# Altium schematic symbol library Bridge-Rectifiers.SchLib: 1 symbol
Pins are listed as number, name and electrical type; pins without a type are passive.

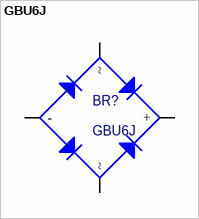
[diagram p0: symbol GBU6J]

## GBU6J
designator BR?
BRIDGE RECT 1PHASE 600V 6A GBU; Manufacturer: onsemi; Manufacturer Lifecycle Status: ACTIVE; Value: 400pF; Element Configuration: Single; Forward Voltage: 1V; Max Forward Surge Current (Ifsm): 175A; Max Junction Temperature (Tj): 150°C; Max Power Dissipation: 12W; Max Reverse Leakage Current: 5µA; Number of Elements: 4; Supplier: DigiKey; Supplier Part Number: GBU6JFS-ND; Manufacturer Part Number: GBU6J; RoHS: Compliant; Category: Bridge Rectifier Diodes; Stock: 3548; Pricing: 1=2.02, 20=1.136, 100=0.8699, 500=0.6911, 1000=0.63359, 2000=0.58524, 5000=0.53293, 10000=0.53113 (USD); Average Rectified Current: 6A; Case/Package: SIP; China RoHS: Non-Compliant; Contact Plating: Tin; Current Rating: 6A; Export Control Classification Number (ECCN) Code: EAR99; Forward Current: 6A; Height: 20.83mm; Harmonized Tariff Schedule (HTS) Code: 8541.10.00.80; Introduction Date: 1999-01-01; Lead Free: Lead Free; Length: 22.3mm; Lifecycle Status: Production; Max Operating Temperature: 150°C; Max Output current: 6A; Max Repetitive Reverse Voltage (Vrrm): 600V; Max Surge Current: 175A; Min Breakdown Voltage: 600V; Min Operating Temperature: -55°C; Mounting Technology: Through Hole; Pins: 4; Number of Terminals: 4; Output Current: 6A; Peak Non-Repetitive Surge Current: 175A; Peak Reverse Current: 5µA; Power Dissipation: 12W; Radiation Hardening: No; REACH SVHC: No; Reverse Standoff Voltage: 600V; Reverse Voltage: 600V; Schedule B: 8541100080, 8541100080|8541100080|8541100080|8541100080|8541100080; Voltage Rating (DC): 600V; Weight: 5.4g; Width: 3.56mm; ComponentLink1URL: https://datasheet.octopart.com:443/GBU6J-onsemi-datasheet-166784474.pdf?src-supplier=Upverter; ComponentLink1Description: https://datasheet.octopart.com:443/GBU6J-onsemi-datasheet-166784474.pdf?src-supplier=Upverter; ComponentLink2URL: https://sigma.octopart.com:443/159494665/technical_drawing/onsemi-GBU6J.pdf?src-supplier=Upverter; ComponentLink2Description: https://sigma.octopart.com:443/159494665/technical_drawing/onsemi-GBU6J.pdf?src-supplier=Upverter; ComponentLink3URL: https://datasheet.octopart.com:443/GBU6J-ON-Semiconductor-datasheet-21133206.pdf?src-supplier=IHS; ComponentLink3Description: https://datasheet.octopart.com:443/GBU6J-ON-Semiconductor-datasheet-21133206.pdf?src-supplier=IHS; ComponentLink4URL: https://datasheet.octopart.com:443/GBU6J-onsemi-datasheet-180960912.pdf?src-supplier=IHS; ComponentLink4Description: https://datasheet.octopart.com:443/GBU6J-onsemi-datasheet-180960912.pdf?src-supplier=IHS; ComponentLink5URL: https://datasheet.octopart.com:443/GBU6J-ON-Semiconductor-datasheet-133511150.pdf?src-supplier=Master+Electronics; ComponentLink5Description: https://datasheet.octopart.com:443/GBU6J-ON-Semiconductor-datasheet-133511150.pdf?src-supplier=Master+Electronics; ComponentLink6URL: https://datasheet.octopart.com:443/GBU6J-ON-Semiconductor-datasheet-81100643.pdf?src-supplier=onsemi; ComponentLink6Description: https://datasheet.octopart.com:443/GBU6J-ON-Semiconductor-datasheet-81100643.pdf?src-supplier=onsemi; ComponentLink7URL: https://datasheet.octopart.com:443/GBU6J-ON-Semiconductor-datasheet-86697259.pdf?src-supplier=onsemi; ComponentLink7Description: https://datasheet.octopart.com:443/GBU6J-ON-Semiconductor-datasheet-86697259.pdf?src-supplier=onsemi; ComponentLink8URL: https://datasheet.octopart.com:443/GBU6J-Fairchild-datasheet-126805.pdf?src-supplier=Fairchild+Semiconductor; ComponentLink8Description: https://datasheet.octopart.com:443/GBU6J-Fairchild-datasheet-126805.pdf?src-supplier=Fairchild+Semiconductor; ComponentLink9URL: https://sigma.octopart.com:443/17352143/technical_drawing/Fairchild-Semiconductor-GBU6J.pdf?src-supplier=Fairchild+Semiconductor; ComponentLink9Description: https://sigma.octopart.com:443/17352143/technical_drawing/Fairchild-Semiconductor-GBU6J.pdf?src-supplier=Fairchild+Semiconductor; ComponentLink10URL: https://datasheet.octopart.com:443/GBU6J-Fairchild-Semiconductor-datasheet-12533422.pdf?src-supplier=Newark; ComponentLink10Description: https://datasheet.octopart.com:443/GBU6J-Fairchild-Semiconductor-datasheet-12533422.pdf?src-supplier=Newark; ComponentLink11URL: https://datasheet.octopart.com:443/GBU6J-onsemi-datasheet-181958985.pdf?src-supplier=Newark; ComponentLink11Description: https://datasheet.octopart.com:443/GBU6J-onsemi-datasheet-181958985.pdf?src-supplier=Newark; ComponentLink12URL: https://datasheet.octopart.com:443/GBU6J-Fairchild-datasheet-21080.pdf?src-supplier=Newark; ComponentLink12Description: https://datasheet.octopart.com:443/GBU6J-Fairchild-datasheet-21080.pdf?src-supplier=Newark; ComponentLink13URL: https://datasheet.octopart.com:443/GBU6J-Fairchild-Semiconductor-datasheet-67910529.pdf?src-supplier=Newark; ComponentLink13Description: https://datasheet.octopart.com:443/GBU6J-Fairchild-Semiconductor-datasheet-67910529.pdf?src-supplier=Newark; ComponentLink14URL: https://datasheet.octopart.com:443/GBU6J-ON-Semiconductor-datasheet-86690898.pdf?src-supplier=Farnell; ComponentLink14Description: https://datasheet.octopart.com:443/GBU6J-ON-Semiconductor-datasheet-86690898.pdf?src-supplier=Farnell; ComponentLink15URL: https://datasheet.octopart.com:443/GBU6J-Fairchild-Semiconductor-datasheet-17852642.pdf?src-supplier=Farnell; ComponentLink15Description: https://datasheet.octopart.com:443/GBU6J-Fairchild-Semiconductor-datasheet-17852642.pdf?src-supplier=Farnell; ComponentLink16URL: https://datasheet.octopart.com:443/GBU6J-Fairchild-Semiconductor-datasheet-16807792.pdf?src-supplier=Farnell; ComponentLink16Description: https://datasheet.octopart.com:443/GBU6J-Fairchild-Semiconductor-datasheet-16807792.pdf?src-supplier=Farnell; ComponentLink17URL: https://datasheet.octopart.com:443/GBU6J-onsemi-datasheet-165581311.pdf?src-supplier=TME; ComponentLink17Description: https://datasheet.octopart.com:443/GBU6J-onsemi-datasheet-165581311.pdf?src-supplier=TME; ComponentLink18URL: https://datasheet.octopart.com:443/GBU6J-ON-Semiconductor-datasheet-140794306.pdf?src-supplier=Future+Electronics; ComponentLink18Description: https://datasheet.octopart.com:443/GBU6J-ON-Semiconductor-datasheet-140794306.pdf?src-supplier=Future+Electronics; ComponentLink19URL: https://datasheet.octopart.com:443/GBU6J-Fairchild-Semiconductor-datasheet-14038890.pdf?src-supplier=iiiC; ComponentLink19Description: https://datasheet.octopart.com:443/GBU6J-Fairchild-Semiconductor-datasheet-14038890.pdf?src-supplier=iiiC; ComponentLink20URL: https://datasheet.octopart.com:443/GBU6J-Fairchild-Semiconductor-datasheet-68551039.pdf?src-supplier=element14+APAC; ComponentLink20Description: https://datasheet.octopart.com:443/GBU6J-Fairchild-Semiconductor-datasheet-68551039.pdf?src-supplier=element14+APAC; ComponentLink21URL: https://datasheet.octopart.com:443/GBU6J-Fairchild-Semiconductor-datasheet-68612053.pdf?src-supplier=element14+APAC; ComponentLink21Description: https://datasheet.octopart.com:443/GBU6J-Fairchild-Semiconductor-datasheet-68612053.pdf?src-supplier=element14+APAC; ComponentLink22URL: https://datasheet.octopart.com:443/GBU6J-Fairchild-Semiconductor-datasheet-78863373.pdf?src-supplier=element14+APAC; ComponentLink22Description: https://datasheet.octopart.com:443/GBU6J-Fairchild-Semiconductor-datasheet-78863373.pdf?src-supplier=element14+APAC; ComponentLink23URL: http://sigma.octopart.com:80/150611767/rohs_statement/ON-Semiconductor-GBU6J.pdf?src-supplier=Compliance+Statements; ComponentLink23Description: http://sigma.octopart.com:80/150611767/rohs_statement/ON-Semiconductor-GBU6J.pdf?src-supplier=Compliance+Statements; ComponentLink24URL: http://sigma.octopart.com:80/17352174/reach_statement/Fairchild-Semiconductor-GBU6J.pdf?src-supplier=Compliance+Statements; ComponentLink24Description: http://sigma.octopart.com:80/17352174/reach_statement/Fairchild-Semiconductor-GBU6J.pdf?src-supplier=Compliance+Statements; ComponentLink25URL: http://sigma.octopart.com:80/17352175/materials_sheet/Fairchild-Semiconductor-GBU6J.pdf?src-supplier=Compliance+Statements; ComponentLink25Description: http://sigma.octopart.com:80/17352175/materials_sheet/Fairchild-Semiconductor-GBU6J.pdf?src-supplier=Compliance+Statements; ComponentLink26URL: http://sigma.octopart.com:80/33179563/reach_statement/Fairchild-Semiconductor-GBU6J.pdf?src-supplier=Compliance+Statements; ComponentLink26Description: http://sigma.octopart.com:80/33179563/reach_statement/Fairchild-Semiconductor-GBU6J.pdf?src-supplier=Compliance+Statements; ComponentLink27URL: http://sigma.octopart.com:80/33179564/materials_sheet/Fairchild-Semiconductor-GBU6J.pdf?src-supplier=Compliance+Statements; ComponentLink27Description: http://sigma.octopart.com:80/33179564/materials_sheet/Fairchild-Semiconductor-GBU6J.pdf?src-supplier=Compliance+Statements; ComponentLink28URL: http://sigma.octopart.com:80/reach_statement/ON-Semiconductor-company-79.pdf?src-supplier=Compliance+Statements; ComponentLink28Description: http://sigma.octopart.com:80/reach_statement/ON-Semiconductor-company-79.pdf?src-supplier=Compliance+Statements; ComponentLink29URL: http://sigma.octopart.com:80/rohs_statement/Fairchild-Semiconductor-company-11.pdf?src-supplier=Compliance+Statements; ComponentLink29Description: http://sigma.octopart.com:80/rohs_statement/Fairchild-Semiconductor-company-11.pdf?src-supplier=Compliance+Statements; ComponentLink30URL: http://sigma.octopart.com:80/rohs_statement/Fairchild-Semiconductor-company-10.pdf?src-supplier=Compliance+Statements; ComponentLink30Description: http://sigma.octopart.com:80/rohs_statement/Fairchild-Semiconductor-company-10.pdf?src-supplier=Compliance+Statements; ComponentLink31URL: http://sigma.octopart.com:80/reach_statement/Fairchild-Semiconductor-company-9.pdf?src-supplier=Compliance+Statements; ComponentLink31Description: http://sigma.octopart.com:80/reach_statement/Fairchild-Semiconductor-company-9.pdf?src-supplier=Compliance+Statements; ComponentLink32URL: https://octopart.com:443/opatz8j6/c1?t=Y2wIxELd3Wvq9IWEVKKTsbdrjJ7Ggdcm4i7JSptPPw2OaGcdNAyHNaP5bgDn4HJSA5mnN8_a5kzX1s712JK3R8stqVIhLyJyItma3TYm28DTKvbjFTnp9bYk8A4AIXKJFpEh79XU9GUBxzcHZjptp9FPQWLpaKOSykZ5o1DVQXF0q0gaE6lgzVboydEWVrcN4tBadYht0FIpjxhPRkvcWqPgXENNVtgZuGQUgEPqcjuw72yI6g81z1w_15eUU2XXELnp3BdylIv2_9Km_Qs0osbZzRO3K02k_zQ3u8EGf4sSmYaHqZ_JhNL-pzDAUAmjd_hCwscb2tsZsK7vxo9hC2CTL1CcZYwx3w&src-supplier=Compliance+Statements; ComponentLink32Description: https://octopart.com:443/opatz8j6/c1?t=Y2wIxELd3Wvq9IWEVKKTsbdrjJ7Ggdcm4i7JSptPPw2OaGcdNAyHNaP5bgDn4HJSA5mnN8_a5kzX1s712JK3R8stqVIhLyJyItma3TYm28DTKvbjFTnp9bYk8A4AIXKJFpEh79XU9GUBxzcHZjptp9FPQWLpaKOSykZ5o1DVQXF0q0gaE6lgzVboydEWVrcN4tBadYht0FIpjxhPRkvcWqPgXENNVtgZuGQUgEPqcjuw72yI6g81z1w_15eUU2XXELnp3BdylIv2_9Km_Qs0osbZzRO3K02k_zQ3u8EGf4sSmYaHqZ_JhNL-pzDAUAmjd_hCwscb2tsZsK7vxo9hC2CTL1CcZYwx3w&src-supplier=Compliance+Statements; ComponentLink33URL: https://octopart.com:443/opatz8j6/c1?t=uBn0TeqP8mKnL0vu0TJMmksDArhA2xnjYHGUamFnwr0Lj9eHIe45ESEN0N09SN0W_BFgT4nWPUjYGWobgYUvNDrBCDNj55iUPKXM9JYlIPnVrBwaj6wnkAkpfDxE12ONBvxAFGcpA2XbXe3Nb2f-XI-nfFiswF2m2FowNrpNRvB6AKeZWoD9ll47nWlvgbebJo7YeJhCYeCrDHTRzSO7UGKpEOZsMMrM7qA5P6RiotoGMUrQrPOY8nKuTkPUKGEWd7UCPS9eXcAoSRVseLv4YBSMU9ZNnucNIvXCnlBboY69LxYHHH7v03oG_pEBnIu6Uvski6XAlJ3wmAIBVDV8r6g4l_d5L4-3&src-supplier=Compliance+Statements; ComponentLink33Description: https://octopart.com:443/opatz8j6/c1?t=uBn0TeqP8mKnL0vu0TJMmksDArhA2xnjYHGUamFnwr0Lj9eHIe45ESEN0N09SN0W_BFgT4nWPUjYGWobgYUvNDrBCDNj55iUPKXM9JYlIPnVrBwaj6wnkAkpfDxE12ONBvxAFGcpA2XbXe3Nb2f-XI-nfFiswF2m2FowNrpNRvB6AKeZWoD9ll47nWlvgbebJo7YeJhCYeCrDHTRzSO7UGKpEOZsMMrM7qA5P6RiotoGMUrQrPOY8nKuTkPUKGEWd7UCPS9eXcAoSRVseLv4YBSMU9ZNnucNIvXCnlBboY69LxYHHH7v03oG_pEBnIu6Uvski6XAlJ3wmAIBVDV8r6g4l_d5L4-3&src-supplier=Compliance+Statements
footprint GBU
pins: 1 +, 2 ~, 3 ~, 4 -